# Altium schematic symbol library Custom Components.SchLib: 47 symbols
Pins are listed as number, name and electrical type; pins without a type are passive.

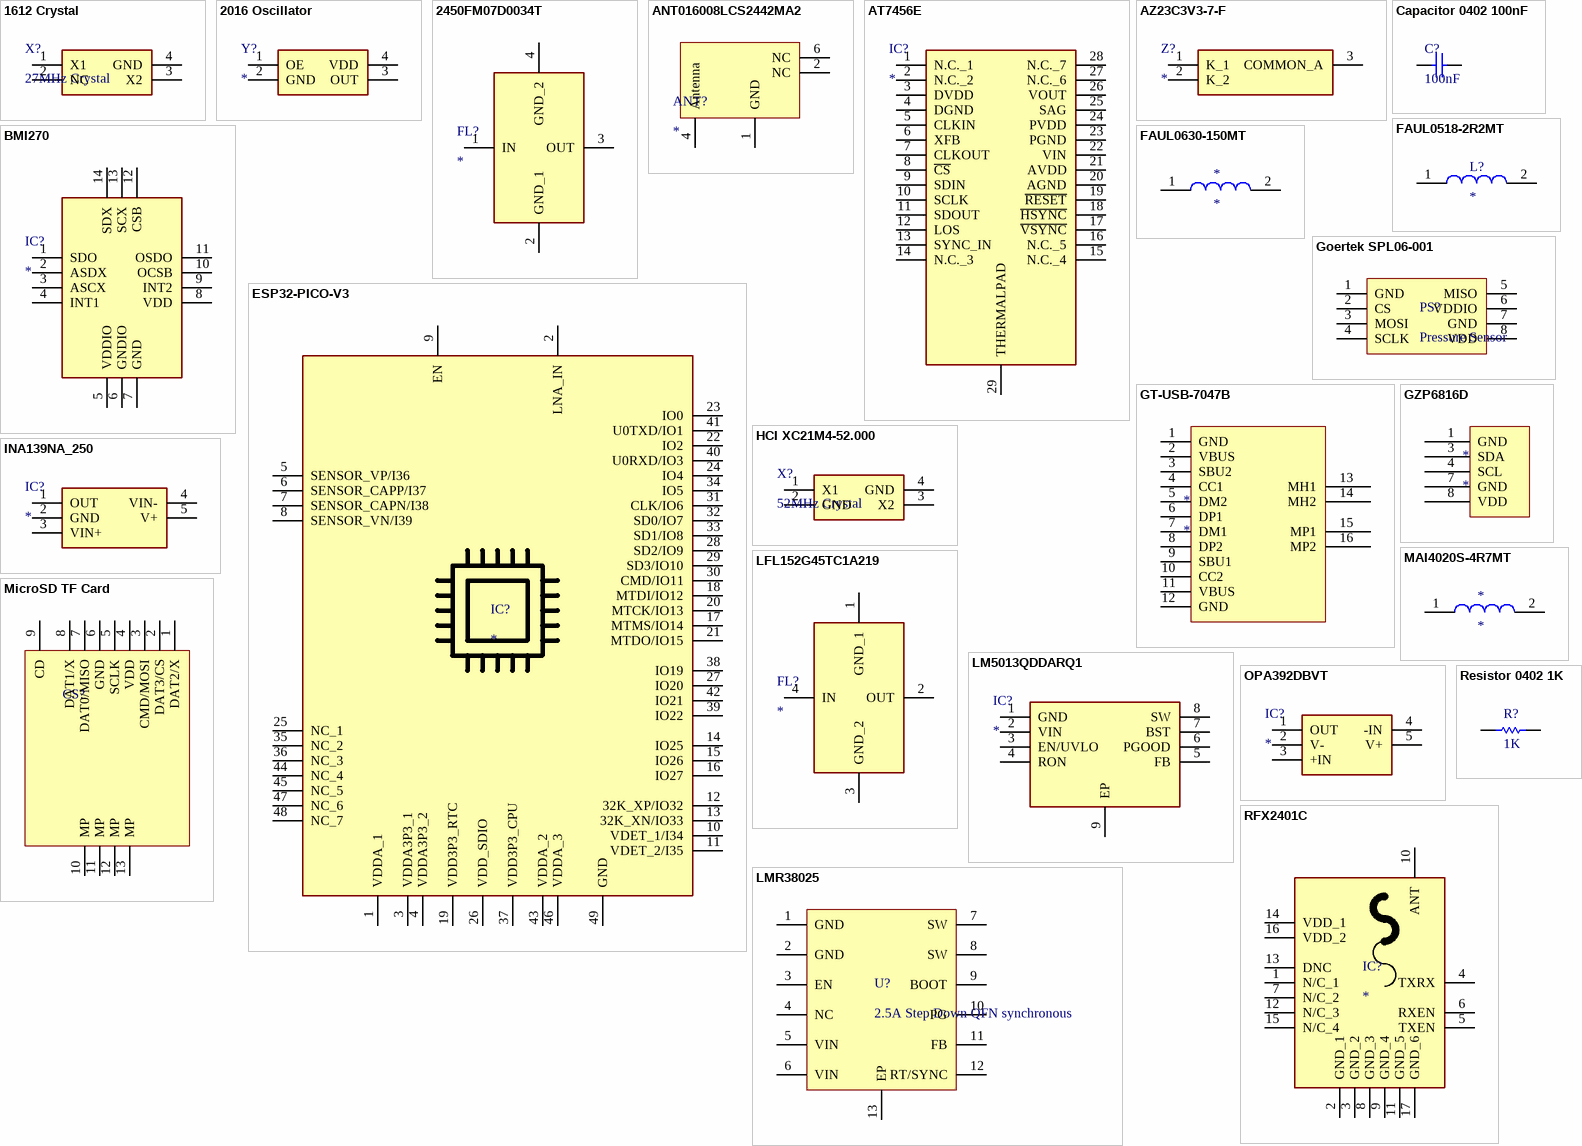
[diagram p0: symbols 1612 Crystal to RFX2401C]

## 1612 Crystal
designator X?, comment 27MHz Crystal
HD 7E027000H01; Manufacturer_Name: Microchip; Manufacturer_Part_Number: DSC6003MA3B-032K768; Datasheet Link: https://www.mouser.es/datasheet/2/268/DSC60xxB-Ultra-Small-Ultra-Low-Power-MEMS-Oscillat-1660527.pdf; Height: 0.89mm; Mouser Part Number: 579-6003MA3B032K768; Mouser Price/Stock: https://www.mouser.co.uk/ProductDetail/Microchip-Technology/DSC6003MA3B-032K768?qs=PqoDHHvF64%252BWTEYTiC%2Fvdw%3D%3D
footprint 1612 crystal
pins: 1 X1, 2 NC, 3 X2, 4 GND

## 2016 Oscillator
designator Y?
YXC OT201612MJBA4SL; Manufacturer_Name: Microchip; Manufacturer_Part_Number: DSC6003MA3B-032K768; Datasheet Link: https://www.mouser.es/datasheet/2/268/DSC60xxB-Ultra-Small-Ultra-Low-Power-MEMS-Oscillat-1660527.pdf; Height: 0.89mm; Mouser Part Number: 579-6003MA3B032K768; Mouser Price/Stock: https://www.mouser.co.uk/ProductDetail/Microchip-Technology/DSC6003MA3B-032K768?qs=PqoDHHvF64%252BWTEYTiC%2Fvdw%3D%3D
footprint 2016 Oscillator
pins: 1 OE, 2 GND, 3 OUT, 4 VDD

## 2450FM07D0034T
designator FL?
Filter; Manufacturer_Name: JOHANSON TECHNOLOGY; Manufacturer_Part_Number: 2450FM07D0034T; Datasheet Link: https://www.mouser.co.uk/datasheet/2/611/2450FM07D0034-1375634.pdf; Height: 0.4mm; Mouser Part Number: 609-2450FM07D0034T; Mouser Price/Stock: https://www.mouser.co.uk/ProductDetail/Johanson-Technology/2450FM07D0034T?qs=%252BEew9%252B0nqrBEY7VUloPs4Q%3D%3D; Arrow Part Number: 2450FM07D0034T; Arrow Price/Stock: https://www.arrow.com/en/products/2450fm07d0034t/johanson-dielectrics?region=nac
footprint 2450FM07D0034T
pins: 1 IN, 2 GND_1, 3 OUT, 4 GND_2

## ANT016008LCS2442MA2
designator ANT?
Antenna; Manufacturer_Name: TDK; Manufacturer_Part_Number: ANT016008LCS2442MA2; Datasheet Link: https://product.tdk.com/system/files/dam/doc/product/rf/rf/antenna/catalog/rf_ant_ant016008lcs2442ma2_summary_en.pdf; Height: 0.4mm; Mouser Part Number: 810-ANT168LCS2442MA2; Mouser Price/Stock: https://www.mouser.co.uk/ProductDetail/TDK/ANT016008LCS2442MA2?qs=NlTBjZZh8j0h3jcBIFCiDg%3D%3D; Arrow Part Number: ANT016008LCS2442MA2; Arrow Price/Stock: https://www.arrow.com/en/products/ant016008lcs2442ma2/tdk
footprint ANT016008LCS2442MA2
pins: 1 GND, 2 NC, 4 Antenna, 6 NC

## AT7456E
designator IC?
Integrated Circuit; Manufacturer_Name: ICOF; Manufacturer_Part_Number: AT7456E; Datasheet Link: https://datasheet.lcsc.com/szlcsc/ZHONGKEWEI-AT7456E_C82351.pdf; Height: 1.2mm
footprint SOP65P640X120-29N
pins: 1 N.C._1, 2 N.C._2, 3 DVDD, 4 DGND, 5 CLKIN, 6 XFB, 7 CLKOUT, 8 ~{CS}, 9 SDIN, 10 SCLK, 11 SDOUT, 12 LOS, 13 SYNC_IN, 14 N.C._3, 15 N.C._4, 16 N.C._5, 17 ~{VSYNC}, 18 ~{HSYNC}, 19 ~{RESET}, 20 AGND, 21 AVDD, 22 VIN, 23 PGND, 24 PVDD, 25 SAG, 26 VOUT, 27 N.C._6, 28 N.C._7, 29 THERMALPAD

## AZ23C3V3-7-F
designator Z?
Zener Diode; Manufacturer_Name: Diodes Inc.; Manufacturer_Part_Number: AZ23C3V3-7-F; Datasheet Link: http://uk.rs-online.com/web/p/products/1220006; Height: 1.2mm; Mouser Part Number: 621-AZ23C3V3-7-F; Mouser Price/Stock: https://www.mouser.co.uk/ProductDetail/Diodes-Incorporated/AZ23C3V3-7-F?qs=rGAXPo9uwV1wE7LTrP7l4Q%3D%3D; Arrow Part Number: AZ23C3V3-7-F; Arrow Price/Stock: https://www.arrow.com/en/products/az23c3v3-7-f/diodes-incorporated
footprint SOT96P240X120-3N
pins: 1 K_1, 2 K_2, 3 COMMON_A

## BMI270
designator IC?
Integrated Circuit; Manufacturer_Name: BOSCH; Manufacturer_Part_Number: BMI270; Datasheet Link: https://www.mouser.de/datasheet/2/783/BST-BMI270-FL000-1530947.pdf; Height: 0.87mm; Mouser Part Number: 262-BMI270; Mouser Price/Stock: https://www.mouser.co.uk/ProductDetail/Bosch-Sensortec/BMI270?qs=u16ybLDytRYIj%252BjQEee88A%3D%3D; Arrow Part Number: BMI270; Arrow Price/Stock: https://www.arrow.com/en/products/bmi270/bosch?region=nac
footprint QFN50P300X250X87-14N
pins: 1 SDO, 2 ASDX, 3 ASCX, 4 INT1, 5 VDDIO, 6 GNDIO, 7 GND, 8 VDD, 9 INT2, 10 OCSB, 11 OSDO, 12 CSB, 13 SCX, 14 SDX

## Capacitor 0402 100nF
designator C?, comment 100nF
Value: 100nF
footprint 0402 cap
pins: 1, 2

## ESP32-PICO-V3
designator IC?
Integrated Circuit; Manufacturer_Name: Espressif Systems; Manufacturer_Part_Number: ESP32-PICO-V3; Datasheet Link: https://kr.mouser.com/datasheet/2/891/esp32-pico-v3_datasheet_en-1842685.pdf; Height: 1.04mm; Mouser Part Number: 356-ESP32-PICO-V3; Mouser Price/Stock: https://www.mouser.co.uk/ProductDetail/Espressif-Systems/ESP32-PICO-V3?qs=GBLSl2Akirs311o8knsnZA%3D%3D
footprint ESP32PICOV3
pins: 1 VDDA_1, 2 LNA_IN, 3 VDDA3P3_1, 4 VDDA3P3_2, 5 SENSOR_VP/I36, 6 SENSOR_CAPP/I37, 7 SENSOR_CAPN/I38, 8 SENSOR_VN/I39, 9 EN, 10 VDET_1/I34, 11 VDET_2/I35, 12 32K_XP/IO32, 13 32K_XN/IO33, 14 IO25, 15 IO26, 16 IO27, 17 MTMS/IO14, 18 MTDI/IO12, 19 VDD3P3_RTC, 20 MTCK/IO13, 21 MTDO/IO15, 22 IO2, 23 IO0, 24 IO4, 25 NC_1, 26 VDD_SDIO, 27 IO20, 28 SD2/IO9, 29 SD3/IO10, 30 CMD/IO11, 31 CLK/IO6, 32 SD0/IO7, 33 SD1/IO8, 34 IO5, 35 NC_2, 36 NC_3, 37 VDD3P3_CPU, 38 IO19, 39 IO22, 40 U0RXD/IO3, 41 U0TXD/IO1, 42 IO21, 43 VDDA_2, 44 NC_4, 45 NC_5, 46 VDDA_3, 47 NC_6, 48 NC_7, 49 GND

## FAUL0518-2R2MT
designator L?
footprint FAUL0518-2R2MT
pins: 1, 2

## FAUL0630-150MT
designator *
footprint FAUL0630-150MT
pins: 1, 2

## Goertek SPL06-001
designator PS?, comment Pressure Sensor
footprint Goertek SPL06-001
pins: 1 GND, 2 CS, 3 MOSI, 4 SCLK, 5 MISO, 6 VDDIO, 7 GND, 8 VDD

## GT-USB-7047B
designator *
footprint GT-USB-7047B
pins: 1 GND, 2 VBUS, 3 SBU2, 4 CC1, 5 DM2, 6 DP1, 7 DM1, 8 DP2, 9 SBU1, 10 CC2, 11 VBUS, 12 GND, 13 MH1, 14 MH2, 15 MP1, 16 MP2

## GZP6816D
designator *
footprint GZP6816D
pins: 1 GND, 3 SDA, 4 SCL, 7 GND, 8 VDD

## HCI XC21M4-52.000
designator X?, comment 52MHz Crystal
HCI XC21M4-52.000-F10NNHPL
footprint 2016 Crystal
pins: 1 X1, 2 GND, 3 X2, 4 GND

## INA139NA_250
designator IC?
Integrated Circuit; Manufacturer_Name: Texas Instruments; Manufacturer_Part_Number: INA139NA/250; Datasheet Link: http://www.ti.com/lit/ds/symlink/ina139.pdf; Height: 1.45mm; Mouser Part Number: 595-INA139NA/250; Mouser Price/Stock: https://www.mouser.co.uk/ProductDetail/Texas-Instruments/INA139NA-250?qs=VBduBm9rCJQSYOixXF05Zw%3D%3D; Arrow Part Number: INA139NA/250; Arrow Price/Stock: https://www.arrow.com/en/products/ina139na250/texas-instruments?region=nac
footprint SOT95P280X145-5N
pins: 1 OUT, 2 GND, 3 VIN+, 4 VIN-, 5 V+

## LFL152G45TC1A219
designator FL?
Filter; Manufacturer_Name: Murata Electronics; Manufacturer_Part_Number: LFL152G45TC1A219; Datasheet Link: https://www.murata.com/en-us/products/productdetail?partno=LFL152G45TC1A219; Height: 0.4mm; Mouser Part Number: 81-LFL152G45TC1A219; Mouser Price/Stock: https://www.mouser.co.uk/ProductDetail/Murata-Electronics/LFL152G45TC1A219?qs=%2F%252BYoplLUB5hWhU%2FZs0btqg%3D%3D; Arrow Part Number: LFL152G45TC1A219; Arrow Price/Stock: https://www.arrow.com/en/products/lfl152g45tc1a219/murata-manufacturing?region=nac
footprint LFL152G45TC1A219
pins: 1 GND_1, 2 OUT, 3 GND_2, 4 IN

## LM5013QDDARQ1
designator IC?
Integrated Circuit; Manufacturer_Name: Texas Instruments; Manufacturer_Part_Number: LM5013QDDARQ1; Datasheet Link: https://www.ti.com/lit/ds/symlink/lm5013-q1.pdf?ts=1650857966126&ref_url=https%253A%252F%252Fwww.ti.com%252Fproduct%252FLM5013-Q1%253FkeyMatch%253DLM5013QDDARQ1%2526tisearch%253Dsearch-everything%2526usecase%253DOPN; Height: 1.7mm; Mouser Part Number: 595-LM5013QDDARQ1; Mouser Price/Stock: https://www.mouser.co.uk/ProductDetail/Texas-Instruments/LM5013QDDARQ1?qs=t7xnP681wgX%2F7Fftd5oLmw%3D%3D; Arrow Part Number: LM5013QDDARQ1; Arrow Price/Stock: https://www.arrow.com/en/products/lm5013qddarq1/texas-instruments?region=nac
footprint SOIC127P600X170-9N
pins: 1 GND, 2 VIN, 3 EN/UVLO, 4 RON, 5 FB, 6 PGOOD, 7 BST, 8 SW, 9 EP

## LMR38025
designator U?, comment 2.5A Step Down QFN synchronous
LMR38025-Q1 SIMPLE SWITCHER® Power Converter, 4.2-V to 80-V, 2.5-A Automotive / Synchronous Buck Converter With 40-μA IQ
footprint LMR38025 (LMR38025-Q1 SIMPLE SWITCHER® Power Converter, 4.2-V to 80-V, 2.5-A Automotive / Synchronous Buck Converter With 40-µA IQ)
pins: 1 GND, 2 GND, 3 EN, 4 NC, 5 VIN, 6 VIN, 7 SW, 8 SW, 9 BOOT, 10 PG, 11 FB, 12 RT/SYNC, 13 EP

## MAI4020S-4R7MT
designator *
footprint MAI4020S-4R7MT
pins: 1, 2

## MicroSD TF Card
designator CS?  (value not drawn)
SHOU HAN TF-CARD H1.8
footprint MicroSD TF Card Slot (SHOU HAN TF-CARD H1.8)
pins: 1 DAT2/X, 2 DAT3/CS, 3 CMD/MOSI, 4 VDD, 5 SCLK, 6 GND, 7 DAT0/MISO, 8 DAT1/X, 9 CD, 10 MP, 11 MP, 12 MP, 13 MP

## OPA392DBVT
designator IC?
Integrated Circuit; Manufacturer_Name: Texas Instruments; Manufacturer_Part_Number: OPA392DBVT; Datasheet Link: https://www.ti.com/lit/ds/symlink/opa392.pdf?ts=1653655032127&ref_url=https%253A%252F%252Fwww.google.com%252F; Height: 1.45mm; Mouser Part Number: 595-OPA392DBVT; Mouser Price/Stock: https://www.mouser.co.uk/ProductDetail/Texas-Instruments/OPA392DBVT?qs=Wj%2FVkw3K%252BMANoSaWNlBOog%3D%3D
footprint SOT95P280X145-5N
pins: 1 OUT, 2 V-, 3 +IN, 4 -IN, 5 V+

## Resistor 0402 1K
designator R?, comment 1K
Value: 1K
footprint 0402 resistor
pins: 1, 2

## RFX2401C
designator IC?
Integrated Circuit; Manufacturer_Name: Skyworks; Manufacturer_Part_Number: RFX2401C; Datasheet Link: https://eu.mouser.com/datasheet/2/472/RFX2401C_204359B-1524606.pdf; Height: 0.6mm; Mouser Part Number: 477-RFX2401C; Mouser Price/Stock: https://www.mouser.co.uk/ProductDetail/Skyworks-Solutions-Inc/RFX2401C?qs=dBWc1juS%252B3ydEXrKsuxQ7A%3D%3D
footprint QFN50P300X300X60-17N-D
pins: 1 N/C_1, 2 GND_1, 3 GND_2, 4 TXRX, 5 TXEN, 6 RXEN, 7 N/C_2, 8 GND_3, 9 GND_4, 10 ANT, 11 GND_5, 12 N/C_3, 13 DNC, 14 VDD_1, 15 N/C_4, 16 VDD_2, 17 GND_6

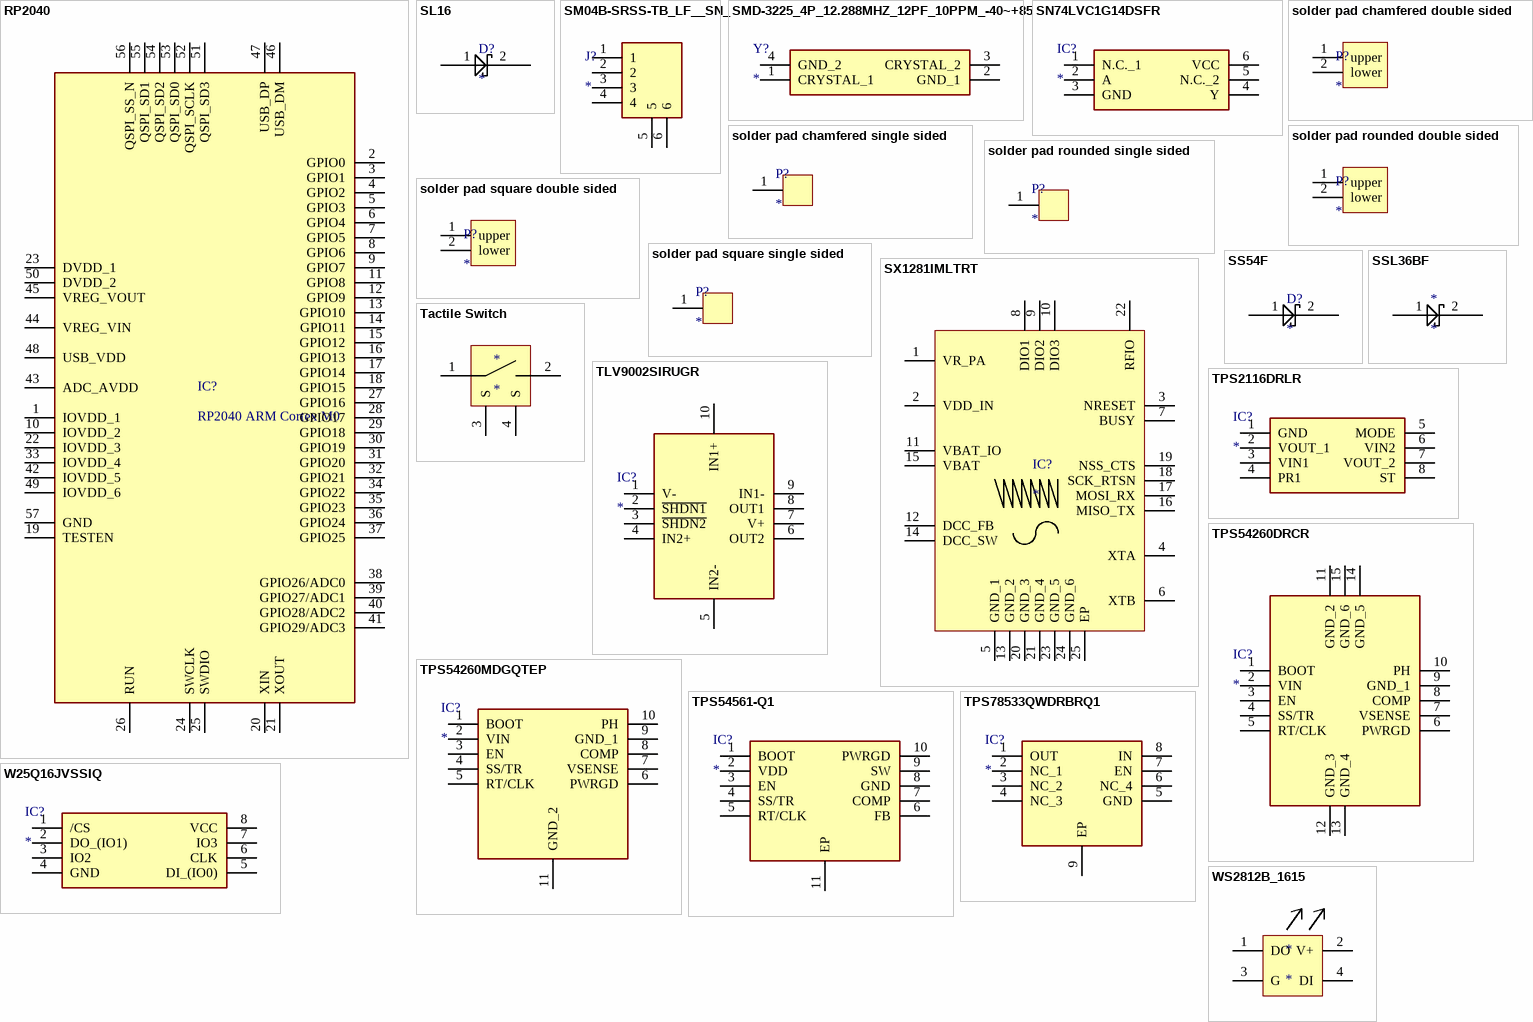
[diagram p1: symbols RP2040 to WS2812B_1615]

## RP2040
designator IC?, comment RP2040 ARM Cortex M0
Microcontroller; Manufacturer_Name: RASPBERRY-PI; Manufacturer_Part_Number: SC0914(13); Datasheet Link: https://datasheets.raspberrypi.com/rp2040/rp2040-datasheet.pdf; Height: 0.9mm; Mouser Part Number: 358-SC091413; Mouser Price/Stock: https://www.mouser.co.uk/ProductDetail/Raspberry-Pi/SC091413?qs=T%252BzbugeAwjhr%252BUbBr3TJcw%3D%3D
footprint SC091413
pins: 1 IOVDD_1, 2 GPIO0, 3 GPIO1, 4 GPIO2, 5 GPIO3, 6 GPIO4, 7 GPIO5, 8 GPIO6, 9 GPIO7, 10 IOVDD_2, 11 GPIO8, 12 GPIO9, 13 GPIO10, 14 GPIO11, 15 GPIO12, 16 GPIO13, 17 GPIO14, 18 GPIO15, 19 TESTEN, 20 XIN, 21 XOUT, 22 IOVDD_3, 23 DVDD_1, 24 SWCLK, 25 SWDIO, 26 RUN, 27 GPIO16, 28 GPIO17, 29 GPIO18, 30 GPIO19, 31 GPIO20 "MOSI0", 32 GPIO21, 33 IOVDD_4, 34 GPIO22, 35 GPIO23, 36 GPIO24, 37 GPIO25, 38 GPIO26/ADC0, 39 GPIO27/ADC1, 40 GPIO28/ADC2, 41 GPIO29/ADC3, 42 IOVDD_5, 43 ADC_AVDD, 44 VREG_VIN, 45 VREG_VOUT, 46 USB_DM, 47 USB_DP, 48 USB_VDD, 49 IOVDD_6, 50 DVDD_2, 51 QSPI_SD3, 52 QSPI_SCLK, 53 QSPI_SD0, 54 QSPI_SD2, 55 QSPI_SD1, 56 QSPI_SS_N, 57 GND

## SL16
designator D?
footprint SL16
pins: 1 5, 2 6

## SM04B-SRSS-TB_LF__SN_
designator J?
Connector; Manufacturer_Name: JST (JAPAN SOLDERLESS TERMINALS); Manufacturer_Part_Number: SM04B-SRSS-TB(LF)(SN); Datasheet Link: http://www.jst-mfg.com/product/pdf/eng/eSH.pdf; Arrow Part Number: SM04B-SRSS-TB(LF)(SN); Arrow Price/Stock: https://www.arrow.com/en/products/sm04b-srss-tb-lf-sn/jst-manufacturing?region=europe
footprint SM04B-SRSS-TB(LFSN)
pins: 1, 2, 3, 4, 5, 6

## SMD-3225_4P_12.288MHZ_12PF_10PPM_-40~+85
designator Y?
Crystal or Oscillator; Manufacturer_Name: TAE(Zhejiang Abel Elec); Manufacturer_Part_Number: SMD-3225_4P 12.288MHZ 12PF 10PPM -40~+85¡æ; Datasheet Link: https://datasheet.lcsc.com/szlcsc/1901241506_Zhejiang-Abel-Elec-SMD-3225-4P-12-288MHZ-12PF-10PPM-40-85_C362472.pdf; Height: 0.8mm
footprint SMD3225_4P12288MHZ12PF10PPM4085
pins: 1 CRYSTAL_1, 2 GND_1, 3 CRYSTAL_2, 4 GND_2

## SN74LVC1G14DSFR
designator IC?
Integrated Circuit; Manufacturer_Name: Texas Instruments; Manufacturer_Part_Number: SN74LVC1G14DSFR; Datasheet Link: https://www.ti.com/lit/ds/symlink/sn74lvc1g14.pdf?HQS=dis-dk-null-digikeymode-dsf-pf-null-wwe&ts=1640194498042&ref_url=https%253A%252F%252Fwww.ti.com%252Fgeneral%252Fdocs%252Fsuppproductinfo.tsp%253FdistId%253D10%2526gotoUrl%253Dhttps%253A%252F%252Fwww.ti; Height: 0.4mm; Mouser Part Number: 595-SN74LVC1G14DSFR; Mouser Price/Stock: https://www.mouser.co.uk/ProductDetail/Texas-Instruments/SN74LVC1G14DSFR?qs=L4ss%2FyqpMWRLGwmM%2Fw1SHQ%3D%3D; Arrow Part Number: SN74LVC1G14DSFR; Arrow Price/Stock: https://www.arrow.com/en/products/sn74lvc1g14dsfr/texas-instruments?region=nac
footprint SON35P100X100X40-6N
pins: 1 N.C._1, 2 A, 3 GND, 4 Y, 5 N.C._2, 6 VCC

## solder pad chamfered double sided
designator P?
footprint solder pad double sided chamfered
pins: 1 upper, 2 lower

## solder pad chamfered single sided
designator P?
footprint solder pad single sided chamfered
pins: 1 upper

## solder pad rounded double sided
designator P?
footprint solder pad double sided rounded
pins: 1 upper, 2 lower

## solder pad rounded single sided
designator P?
footprint solder pad single sided rounded
pins: 1 upper

## solder pad square double sided
designator P?
footprint solder pad double sided square
pins: 1 upper, 2 lower

## solder pad square single sided
designator P?
footprint solder pad single sided square
pins: 1 upper

## SS54F
designator D?
footprint SS54F
pins: 1 5, 2 6

## SSL36BF
designator *
footprint SSL36BF
pins: 1 5, 2 6

## SX1281IMLTRT
designator IC?
Integrated Circuit; Manufacturer_Name: SEMTECH; Manufacturer_Part_Number: SX1281IMLTRT; Datasheet Link: https://www.arrow.com/en/products/sx1281imltrt/semtech; Height: 1mm; Mouser Part Number: 947-SX1281IMLTRT; Mouser Price/Stock: https://www.mouser.co.uk/ProductDetail/Semtech/SX1281IMLTRT?qs=5aG0NVq1C4xR1aFoShVcjg%3D%3D; Arrow Part Number: SX1281IMLTRT; Arrow Price/Stock: https://www.arrow.com/en/products/sx1281imltrt/semtech?region=nac
footprint QFN50P400X400X100-25N-D
pins: 1 VR_PA, 2 VDD_IN, 3 NRESET, 4 XTA, 5 GND_1, 6 XTB, 7 BUSY, 8 DIO1, 9 DIO2, 10 DIO3, 11 VBAT_IO, 12 DCC_FB, 13 GND_2, 14 DCC_SW, 15 VBAT, 16 MISO_TX, 17 MOSI_RX, 18 SCK_RTSN, 19 NSS_CTS, 20 GND_3, 21 GND_4, 22 RFIO, 23 GND_5, 24 GND_6, 25 EP

## Tactile Switch
designator *
footprint Tactile Switch
pins: 1, 2, 3 S, 4 S

## TLV9002SIRUGR
designator IC?
Integrated Circuit; Manufacturer_Name: Texas Instruments; Manufacturer_Part_Number: TLV9002SIRUGR; Datasheet Link: http://www.ti.com/lit/gpn/TLV9002; Height: 0.4mm; Mouser Part Number: 595-TLV9002SIRUGR; Mouser Price/Stock: https://www.mouser.co.uk/ProductDetail/Texas-Instruments/TLV9002SIRUGR?qs=2WXlatMagcFgZnU86g5SIg%3D%3D; Arrow Part Number: TLV9002SIRUGR; Arrow Price/Stock: https://www.arrow.com/en/products/tlv9002sirugr/texas-instruments?region=nac
footprint QFN50P150X200X40-10N
pins: 1 V-, 2 ~{SHDN1}, 3 ~{SHDN2}, 4 IN2+, 5 IN2-, 6 OUT2, 7 V+, 8 OUT1, 9 IN1-, 10 IN1+

## TPS2116DRLR
designator IC?
Integrated Circuit; Manufacturer_Name: Texas Instruments; Manufacturer_Part_Number: TPS2116DRLR; Datasheet Link: https://www.ti.com/lit/gpn/tps2116; Height: 0.6mm; Mouser Part Number: 595-TPS2116DRLR; Mouser Price/Stock: https://www.mouser.co.uk/ProductDetail/Texas-Instruments/TPS2116DRLR?qs=aP1CjGhiNiGo3XAyXcVPaQ%3D%3D; Arrow Part Number: TPS2116DRLR; Arrow Price/Stock: https://www.arrow.com/en/products/tps2116drlr/texas-instruments?region=nac
footprint SOTFL50P160X60-8N
pins: 1 GND, 2 VOUT_1, 3 VIN1, 4 PR1, 5 MODE, 6 VIN2, 7 VOUT_2, 8 ST

## TPS54260DRCR
designator IC?
Integrated Circuit; Manufacturer_Name: Texas Instruments; Manufacturer_Part_Number: TPS54260DRCR; Datasheet Link: http://www.ti.com/lit/gpn/TPS54040A; Height: 1mm; Mouser Part Number: 595-TPS54260DRCR; Mouser Price/Stock: https://www.mouser.co.uk/ProductDetail/Texas-Instruments/TPS54260DRCR?qs=O1HRStiETChM7xK%2FSiuP6w%3D%3D; Arrow Part Number: TPS54260DRCR; Arrow Price/Stock: https://www.arrow.com/en/products/tps54260drcr/texas-instruments?region=nac
footprint TPS54040ADRCT
pins: 1 BOOT, 2 VIN, 3 EN, 4 SS/TR, 5 RT/CLK, 6 PWRGD, 7 VSENSE, 8 COMP, 9 GND_1, 10 PH, 11 GND_2, 12 GND_3, 13 GND_4, 14 GND_5, 15 GND_6

## TPS54260MDGQTEP
designator IC?
Integrated Circuit; Manufacturer_Name: Texas Instruments; Manufacturer_Part_Number: TPS54260MDGQTEP; Datasheet Link: http://www.ti.com/lit/gpn/tps54260-ep; Height: 1.1mm; Mouser Part Number: 595-TPS54260MDGQTEP; Mouser Price/Stock: https://www.mouser.co.uk/ProductDetail/Texas-Instruments/TPS54260MDGQTEP?qs=bKNdOM%2FM%252B1mIvjOlj1MFew%3D%3D; Arrow Part Number: TPS54260MDGQTEP; Arrow Price/Stock: https://www.arrow.com/en/products/tps54260mdgqtep/texas-instruments?region=nac
footprint SOP50P490X110-11N
pins: 1 BOOT, 2 VIN, 3 EN, 4 SS/TR, 5 RT/CLK, 6 PWRGD, 7 VSENSE, 8 COMP, 9 GND_1, 10 PH, 11 GND_2

## TPS54561-Q1
designator IC?
Integrated Circuit; Manufacturer_Name: Texas Instruments; Manufacturer_Part_Number: TPS54561-Q1; Datasheet Link: http://www.ti.com/lit/gpn/tps54561-q1; Height: 0.8mm
footprint SON80P400X400X80-11N
pins: 1 BOOT, 2 VDD, 3 EN, 4 SS/TR, 5 RT/CLK, 6 FB, 7 COMP, 8 GND, 9 SW, 10 PWRGD, 11 EP

## TPS78533QWDRBRQ1
designator IC?
Integrated Circuit; Manufacturer_Name: Texas Instruments; Manufacturer_Part_Number: TPS78533QWDRBRQ1; Datasheet Link: https://www.arrow.com/en/products/tps78533qwdrbrq1/texas-instruments?region=nac; Height: 1mm; Mouser Part Number: 595-TPS78533QWDRBRQ1; Mouser Price/Stock: https://www.mouser.co.uk/ProductDetail/Texas-Instruments/TPS78533QWDRBRQ1?qs=iLbezkQI%252BsiNbdqh2Ko9GQ%3D%3D; Arrow Part Number: TPS78533QWDRBRQ1; Arrow Price/Stock: https://www.arrow.com/en/products/tps78533qwdrbrq1/texas-instruments?region=nac
footprint SON65P300X300X100-9N-D
pins: 1 OUT, 2 NC_1, 3 NC_2, 4 NC_3, 5 GND, 6 NC_4, 7 EN, 8 IN, 9 EP

## W25Q16JVSSIQ
designator IC?
Integrated Circuit; Manufacturer_Name: Winbond; Manufacturer_Part_Number: W25Q16JVSSIQ; Datasheet Link: https://www.winbond.com/hq/search-resource-file.jsp?partNo=W25Q16JVSSIQ&type=datasheet; Height: 2.16mm; Mouser Part Number: 454-W25Q16JVSSIQ; Mouser Price/Stock: https://www.mouser.co.uk/ProductDetail/Winbond/W25Q16JVSSIQ?qs=qSfuJ%252Bfl%2Fd46L%2F1QrQC%2Fog%3D%3D; Arrow Part Number: W25Q16JVSSIQ; Arrow Price/Stock: https://www.arrow.com/en/products/w25q16jvssiq/winbond-electronics?region=nac
footprint SOIC127P790X216-8N
pins: 1 /CS, 2 DO_(IO1), 3 IO2, 4 GND, 5 DI_(IO0), 6 CLK, 7 IO3, 8 VCC

## WS2812B_1615
designator *
footprint WS2812B_1615
pins: 1 DO, 2 V+, 3 G, 4 DI